# Altium schematic symbol library gb2040.SchLib: 27 symbols
Pins are listed as number, name and electrical type; pins without a type are passive.

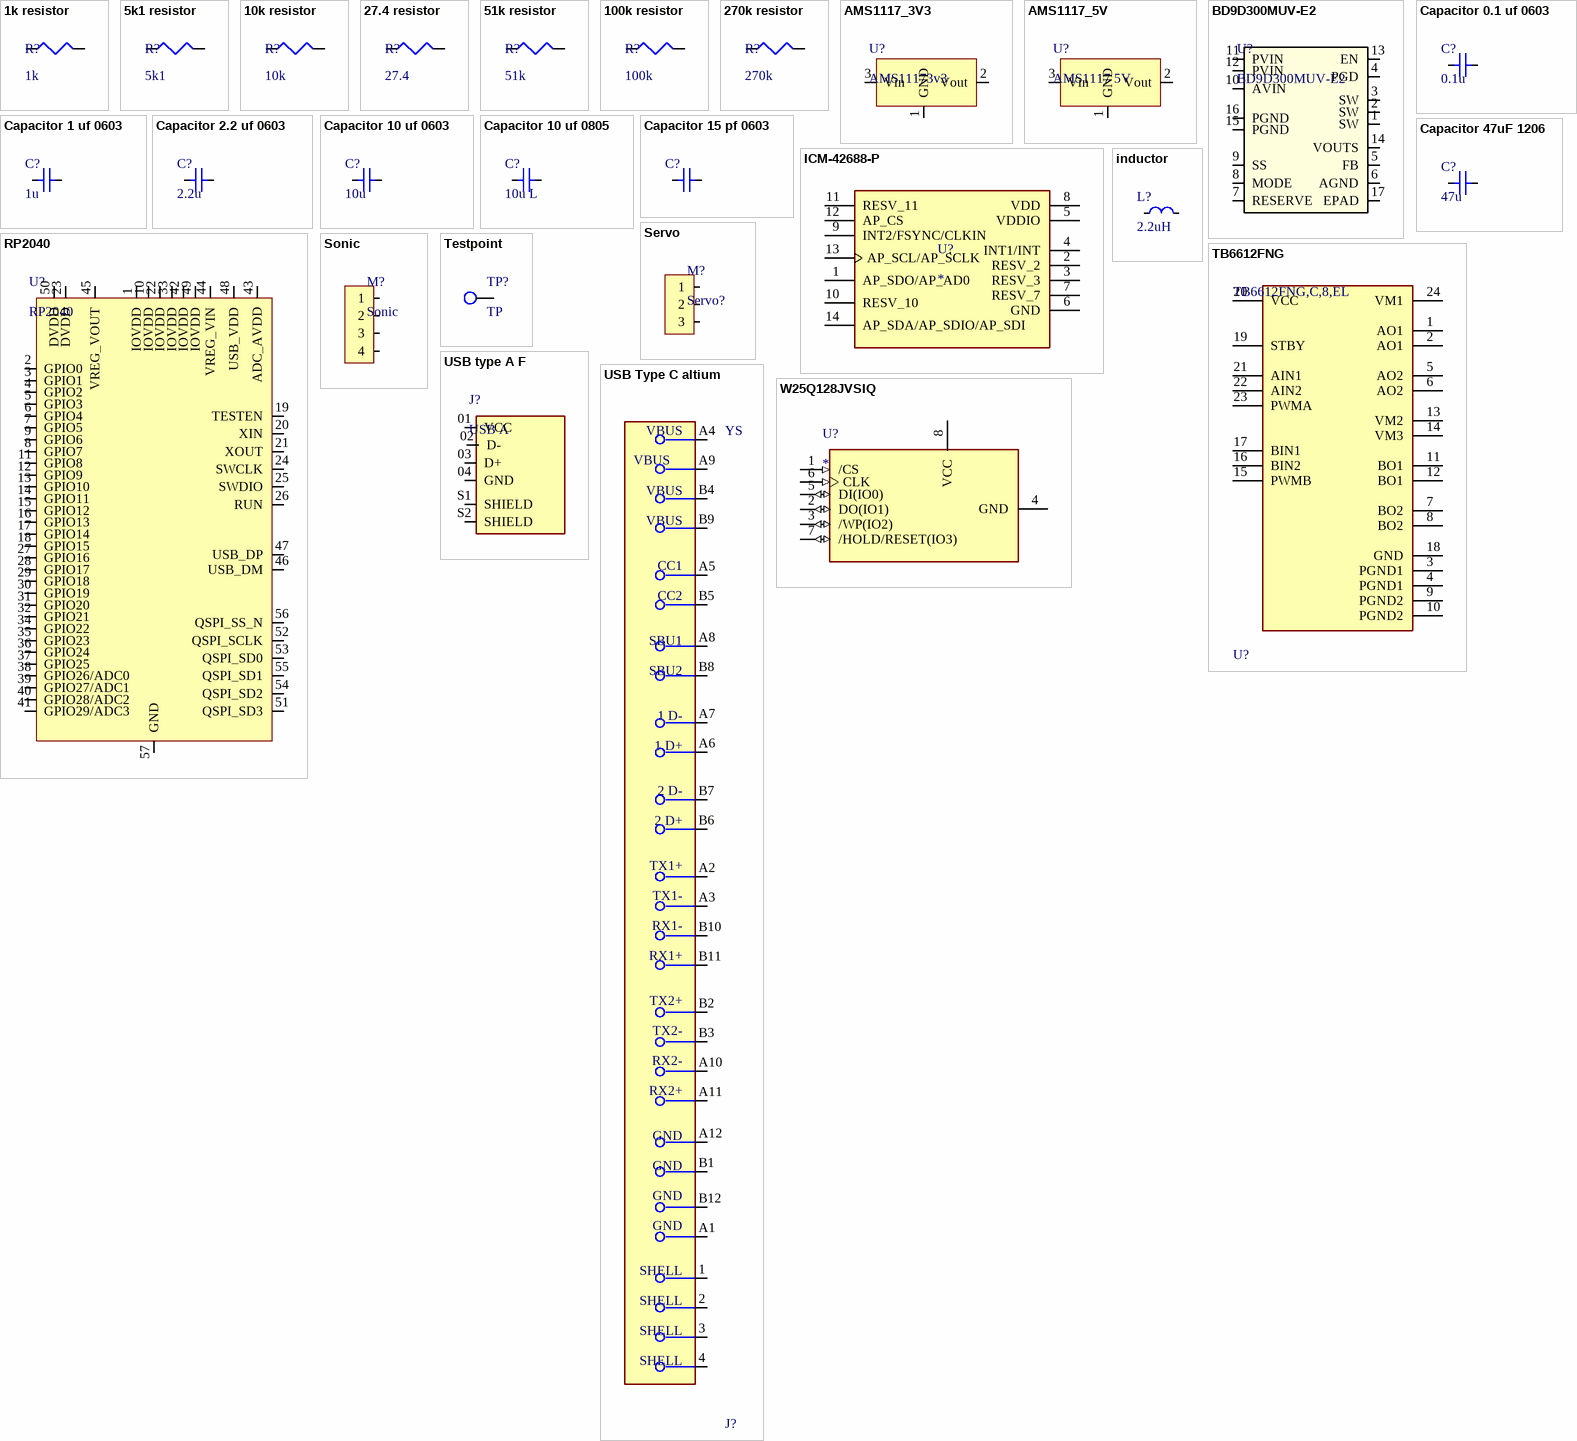
[diagram p0: symbols 1k resistor to W25Q128JVSIQ]

## 1k resistor
designator R?, comment 1k
Resistor; Published: 8-Jun-2000; LatestRevisionDate: 29-May-2009; LatestRevisionNote: IPC-7351 Footprint Added.; PackageReference: J1-0603; Publisher: Altium Limited; PackageDescription: Chip Resistor
footprint J1-0603 (Chip Resistor, Body 1.6x0.8mm, IPC High Density)
footprint 6-0805_M (Chip Resistor, Body 2.0x1.2mm, IPC Low Density)
pins: 1, 2

## 5k1 resistor
designator R?, comment 5k1
5.1k resistor 0805; Published: 8-Jun-2000; LatestRevisionDate: 29-May-2009; LatestRevisionNote: IPC-7351 Footprint Added.; PackageReference: J1-0603; Publisher: Altium Limited; PackageDescription: Chip Resistor
footprint 6-0805_M (Chip Resistor, Body 2.0x1.2mm, IPC Low Density)
pins: 1, 2

## 10k resistor
designator R?, comment 10k
Resistor; Published: 8-Jun-2000; LatestRevisionDate: 29-May-2009; LatestRevisionNote: IPC-7351 Footprint Added.; PackageReference: J1-0603; Publisher: Altium Limited; PackageDescription: Chip Resistor
footprint J1-0603 (Chip Resistor, Body 1.6x0.8mm, IPC High Density)
footprint 6-0805_M (Chip Resistor, Body 2.0x1.2mm, IPC Low Density)
pins: 1, 2

## 27.4 resistor
designator R?, comment 27.4
27.4 Resistor; Published: 8-Jun-2000; LatestRevisionDate: 29-May-2009; LatestRevisionNote: IPC-7351 Footprint Added.; PackageReference: J1-0603; Publisher: Altium Limited; PackageDescription: Chip Resistor
footprint J1-0603 (Chip Resistor, Body 1.6x0.8mm, IPC High Density)
pins: 1, 2

## 51k resistor
designator R?, comment 51k
51k resistor; Published: 8-Jun-2000; LatestRevisionDate: 29-May-2009; LatestRevisionNote: IPC-7351 Footprint Added.; PackageReference: J1-0603; Publisher: Altium Limited; PackageDescription: Chip Resistor
footprint 6-0805_M (Chip Resistor, Body 2.0x1.2mm, IPC Low Density)
footprint J1-0603 (Chip Resistor, Body 1.6x0.8mm, IPC High Density)
pins: 1, 2

## 100k resistor
designator R?, comment 100k
100k resistor; Published: 8-Jun-2000; LatestRevisionDate: 29-May-2009; LatestRevisionNote: IPC-7351 Footprint Added.; PackageReference: J1-0603; Publisher: Altium Limited; PackageDescription: Chip Resistor
footprint 6-0805_M (Chip Resistor, Body 2.0x1.2mm, IPC Low Density)
footprint J1-0603 (Chip Resistor, Body 1.6x0.8mm, IPC High Density)
pins: 1, 2

## 270k resistor
designator R?, comment 270k
270k 0805 resistor; Published: 8-Jun-2000; LatestRevisionDate: 29-May-2009; LatestRevisionNote: IPC-7351 Footprint Added.; PackageReference: J1-0603; Publisher: Altium Limited; PackageDescription: Chip Resistor
footprint 6-0805_M (Chip Resistor, Body 2.0x1.2mm, IPC Low Density)
footprint J1-0603 (Chip Resistor, Body 1.6x0.8mm, IPC High Density)
pins: 1, 2

## AMS1117_3V3
designator U?, comment AMS11173v3
3.3v version of AMS11173v3
footprint SOT229P700X180-4N
pins: 1 GND, 2 Vout, 3 Vin

## AMS1117_5V
designator U?, comment AMS1117 5V
5V version of AMS11173
footprint SOT229P700X180-4N
pins: 1 GND, 2 Vout, 3 Vin

## BD9D300MUV-E2
designator U?
Switching regualtor 3A 4.7v to 14V; Mfr_Name: ROHM Semiconductor; RefDes: RefDes; Type: Type
footprint VQFN16_BD9D300_ROM-M
pins: 1 SW, 2 SW, 3 SW, 4 PGD, 5 FB (out), 6 AGND (power), 7 RESERVE (power), 8 MODE, 9 SS, 10 AVIN (power), 11 PVIN (power), 12 PVIN (power), 13 EN, 14 VOUTS (out), 15 PGND (power), 16 PGND (power), 17 EPAD (power)

## Capacitor 0.1 uf 0603
designator C?, comment 0.1u
Capacitor 0.1 uf 0603; Creator: Gabriel de Leon
footprint Cap 0603 (Chip Capacitor, 2-Leads, Body 1.70x0.90mm, IPC Medium Density)
pins: 1 pin 1, 2 pin 2

## Capacitor 1 uf 0603
designator C?, comment 1u
Capacitor 0.1 uf 0603; Creator: Gabriel de Leon
footprint Cap 0603 (Chip Capacitor, 2-Leads, Body 1.70x0.90mm, IPC Medium Density)
pins: 1 pin 1, 2 pin 2

## Capacitor 2.2 uf 0603
designator C?, comment 2.2u
Capacitor 2.2 uf 0603; Creator: Gabriel de Leon
footprint Cap 0603 (Chip Capacitor, 2-Leads, Body 1.70x0.90mm, IPC Medium Density)
pins: 1 pin 1, 2 pin 2

## Capacitor 10 uf 0603
designator C?, comment 10u
Capacitor 10 uf 0603; Creator: Gabriel de Leon
footprint Cap 0603 (Chip Capacitor, 2-Leads, Body 1.70x0.90mm, IPC Medium Density)
pins: 1 pin 1, 2 pin 2

## Capacitor 10 uf 0805
designator C?, comment 10u L
Capacitor 10 uf 0805; Creator: Gabriel de Leon
footprint 6-0805_M (Chip Resistor, Body 2.0x1.2mm, IPC Low Density)
pins: 1 pin 1, 2 pin 2

## Capacitor 15 pf 0603
designator C?, comment 15p  (value not drawn)
Capacitor 15 pf 0603; Creator: Gabriel de Leon
footprint Cap 0603 (Chip Capacitor, 2-Leads, Body 1.70x0.90mm, IPC Medium Density)
pins: 1 pin 1, 2 pin 2

## Capacitor 47uF 1206
designator C?, comment 47u
Capacitor 47uF 1206; Creator: Gabriel de Leon
footprint 6-0805_M (Chip Resistor, Body 2.0x1.2mm, IPC Low Density)
footprint 1206 cap
pins: 1 pin 1, 2 pin 2

## ICM-42688-P
designator U?
Accelerometer, Gyroscope, 6 Axis Sensor Output; MP: ICM-42688-P; Package: None; Value: *; Availability: Unavailable; Price: None
footprint PQFN50P300X250X97-14N
footprint LGA14_2P5X3X0P91_IVS
pins: 1 AP_SDO/AP_AD0, 2 RESV_2, 3 RESV_3, 4 INT1/INT, 5 VDDIO (power), 6 GND (power), 7 RESV_7, 8 VDD (power), 9 INT2/FSYNC/CLKIN, 10 RESV_10, 11 RESV_11, 12 AP_CS, 13 AP_SCL/AP_SCLK, 14 AP_SDA/AP_SDIO/AP_SDI

## inductor
designator L?, comment 2.2uH
Inductor
footprint INDPM5552X300N
pins: 1, 2

## RP2040
designator U?
Rasberry pi PR2040; Manufacturer: Raspberry Pi; Creater: Gabriel de Leon; Manufacturer Part Number: RP2040
footprint QFN-56-GP
pins: 1 IOVDD (power), 2 GPIO0 (io), 3 GPIO1 (io), 4 GPIO2 (io), 5 GPIO3 (io), 6 GPIO4 (io), 7 GPIO5 (io), 8 GPIO7 (io), 9 GPIO6 (io), 10 IOVDD (power), 11 GPIO8 (io), 12 GPIO9 (io), 13 GPIO10 (io), 14 GPIO11 (io), 15 GPIO12 (io), 16 GPIO13 (io), 17 GPIO14 (io), 18 GPIO15 (io), 19 TESTEN, 20 XIN, 21 XOUT, 22 IOVDD (power), 23 DVDD (power), 24 SWCLK, 25 SWDIO, 26 RUN, 27 GPIO16 (io), 28 GPIO17 (io), 29 GPIO18 (io), 30 GPIO19 (io), 31 GPIO20 (io), 32 GPIO21 (io), 33 IOVDD (power), 34 GPIO22 (io), 35 GPIO23 (io), 36 GPIO24 (io), 37 GPIO25 (io), 38 GPIO26/ADC0 (io), 39 GPIO27/ADC1 (io), 40 GPIO28/ADC2 (io), 41 GPIO29/ADC3 (io), 42 IOVDD (power), 43 ADC_AVDD (power), 44 VREG_VIN (power), 45 VREG_VOUT (power), 46 USB_DM, 47 USB_DP, 48 USB_VDD (power), 49 IOVDD (power), 50 DVDD (power), 51 QSPI_SD3, 52 QSPI_SCLK, 53 QSPI_SD0, 54 QSPI_SD2, 55 QSPI_SD1, 56 QSPI_SS_N, 57 GND (power)

## Servo
designator M?, comment Servo?
Servo conncetion
footprint 3 Pin tht (3 pin servo)
pins: 1, 2, 3

## Sonic
designator M?
Sonic sensor
footprint 4 Pin tht - duplicate (4 pin THT)
pins: 1, 2, 3, 4

## TB6612FNG
designator U?, comment TB6612FNG,C,8,EL
IC MOTOR DRIVER 2.7V-5.5V 24SSOP; Logic Function: AND GATE; Interface: Parallel; Operating Supply Voltage: 3V; Max Supply Voltage: 5.5V; Output Current: 1A; Min Supply Voltage: 2.7V; Number of Outputs: 2; Packaging: Tape and Reel; Mount: Surface Mount; Number of Pins: 24; Min Operating Temperature: -20°C; Case/Package: SSOP; Series: -; Max Operating Temperature: 85°C; Package Quantity: 1
footprint FP-SSOP24-P-300-0_65A-IPC_A
pins: 1 AO1, 2 AO1, 3 PGND1, 4 PGND1, 5 AO2, 6 AO2, 7 BO2, 8 BO2, 9 PGND2, 10 PGND2, 11 BO1, 12 BO1, 13 VM2, 14 VM3, 15 PWMB, 16 BIN2, 17 BIN1, 18 GND, 19 STBY, 20 VCC, 21 AIN1, 22 AIN2, 23 PWMA, 24 VM1

## Testpoint
designator TP?, comment TP  (no BOM)
footprint TP through
footprint TP flat
pins: 1 P1

## USB type A F
designator J?, comment USB A
Usb type A female; MF: Amphenol ICC; MP: 87583-2010RPLF; Package: None; Price: None; Value: *; Availability: Unavailable
footprint AMPHENOL_87583-2010RPLF
pins: 01 VCC (power), 02 D- (io), 03 D+ (io), 04 GND (power), S1 SHIELD, S2 SHIELD

## USB Type C altium
designator J?, comment YS
CONN RCP USB3.1 TYPEC 24P SMD RA; Connector Type: USB; Number of Contacts: 24; Gender: Receptacle; Packaging: Cut Tape; Mount: Surface Mount; Number of Pins: 24
footprint FP-12401610E4#2A-MFG
pins: 1 SHELL (power), 2 SHELL (power), 3 SHELL (power), 4 SHELL (power), A1 GND (power), A2 TX1+, A3 TX1-, A4 VBUS (power), A5 CC1, A6 1 D+, A7 1 D-, A8 SBU1, A9 VBUS (power), A10 RX2-, A11 RX2+, A12 GND (power), B1 GND (power), B2 TX2+, B3 TX2-, B4 VBUS (power), B5 CC2, B6 2 D+, B7 2 D-, B8 SBU2, B9 VBUS (power), B10 RX1-, B11 RX1+, B12 GND (power)

## W25Q128JVSIQ
designator U?
FLASH - NOR Memory IC 128Mb (16M x 8) SPI - Quad I/O, QPI, DTR 133 MHz 8-SOIC; MF: Winbond Electronics; MP: W25Q128JVSIQ; Price: None; Purchase-URL: https://pricing.snapeda.com/search/part/W25Q128JVSIQ/?ref=eda; Check_prices: https://www.snapeda.com/parts/W25Q128JVSIQ/Winbond+Electronics/view-part/?ref=eda; Value: *; Package: SOIC-8 Winbond; SnapEDA_Link: https://www.snapeda.com/parts/W25Q128JVSIQ/Winbond+Electronics/view-part/?ref=snap; Availability: In Stock
footprint SOIC127P790X216-8N
pins: 1 /CS (in), 2 DO(IO1) (io), 3 /WP(IO2) (io), 4 GND (power), 5 DI(IO0) (io), 6 CLK (in), 7 /HOLD/RESET(IO3) (io), 8 VCC (power)